# Altium schematic symbol library OS102011MA1QS1.SchLib: 1 symbol
Pins are listed as number, name and electrical type; pins without a type are passive.

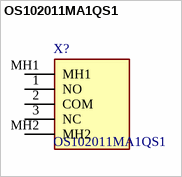
[diagram p0: symbol OS102011MA1QS1]

## OS102011MA1QS1
designator X?
SWITCH SLIDE SPDT 100MA 12V; Manufacturer_Name: C & K COMPONENTS; Geometry.Height: 4.7mm; Manufacturer_Part_Number: OS102011MA1QS1; Mouser Part Number: N/A; Mouser Price/Stock: https://www.mouser.co.uk/ProductDetail/CK/OS102011MA1QS1?qs=WtljUlYws5QESxS45g%252B0yg%3D%3D; Arrow Part Number: OS102011MA1QS1; Arrow Price/Stock: https://www.arrow.com/en/products/os102011ma1qs1/ck?region=nac; Datasheet Link: https://www.digikey.ph/en/products/detail/c-k/OS102011MA1QS1/1981431?msockid=39f1ec84d77b6f4428b7f904d6676eed
footprint OS102011MA1QS1
pins: 1 NO, 2 COM, 3 NC, MH1, MH2